# EAGLE library part XCV1000E_FG680 (library xilinx-xcv)
xcv1000e_fg680_1532 edit this description Auto generated by make-symbol-device-package-bsdl.ulp Rev. 26 Source: xcv1000e_fg680_1532.bsd
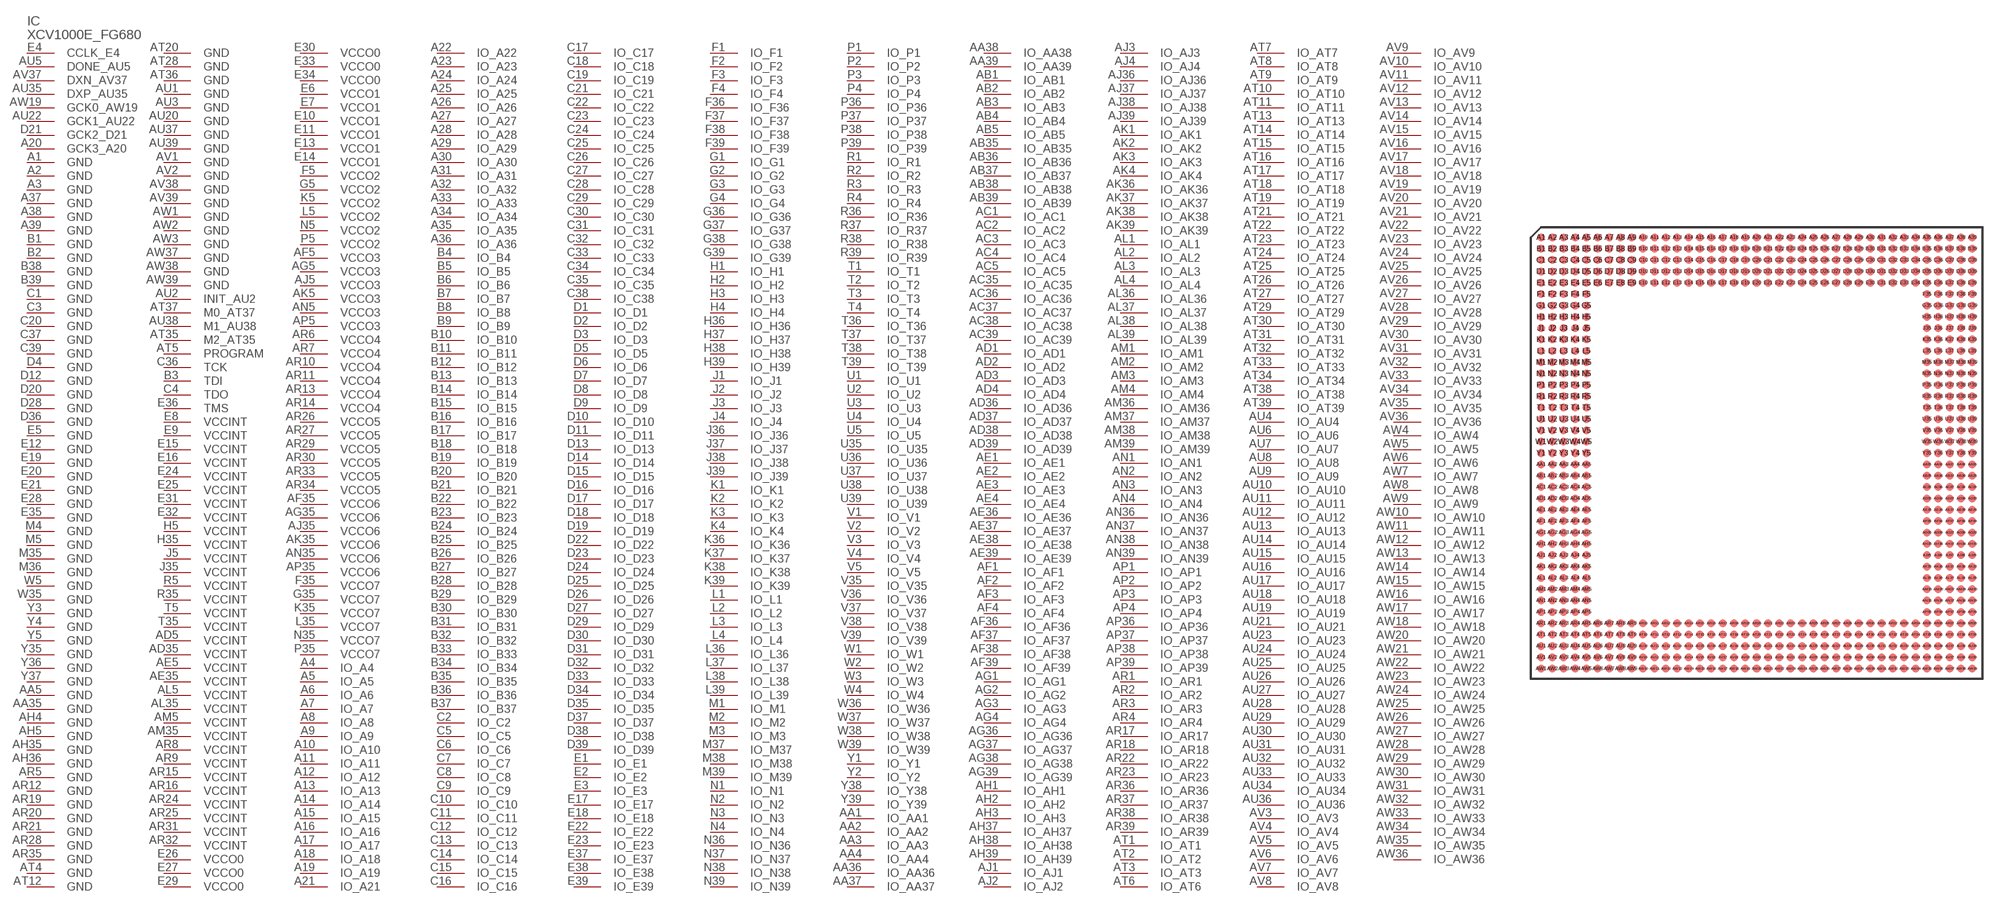
[diagram p11: symbol with the pads of FG680; footprint FG680]

Designator prefix IC

## XCV1000E_FG680  [FG680]
A1  GND  pwr
A2  GND  pwr
A3  GND  pwr
A4  IO_A4
A5  IO_A5
A6  IO_A6
A7  IO_A7
A8  IO_A8
A9  IO_A9
A10  IO_A10
A11  IO_A11
A12  IO_A12
A13  IO_A13
A14  IO_A14
A15  IO_A15
A16  IO_A16
A17  IO_A17
A18  IO_A18
A19  IO_A19
A20  GCK3_A20  in
A21  IO_A21
A22  IO_A22
A23  IO_A23
A24  IO_A24
A25  IO_A25
A26  IO_A26
A27  IO_A27
A28  IO_A28
A29  IO_A29
A30  IO_A30
A31  IO_A31
A32  IO_A32
A33  IO_A33
A34  IO_A34
A35  IO_A35
A36  IO_A36
A37  GND  pwr
A38  GND  pwr
A39  GND  pwr
AA1  IO_AA1
AA2  IO_AA2
AA3  IO_AA3
AA4  IO_AA4
AA5  GND  pwr
AA35  GND  pwr
AA36  IO_AA36
AA37  IO_AA37
AA38  IO_AA38
AA39  IO_AA39
AB1  IO_AB1
AB2  IO_AB2
AB3  IO_AB3
AB4  IO_AB4
AB5  IO_AB5
AB35  IO_AB35
AB36  IO_AB36
AB37  IO_AB37
AB38  IO_AB38
AB39  IO_AB39
AC1  IO_AC1
AC2  IO_AC2
AC3  IO_AC3
AC4  IO_AC4
AC5  IO_AC5
AC35  IO_AC35
AC36  IO_AC36
AC37  IO_AC37
AC38  IO_AC38
AC39  IO_AC39
AD1  IO_AD1
AD2  IO_AD2
AD3  IO_AD3
AD4  IO_AD4
AD5  VCCINT  pwr
AD35  VCCINT  pwr
AD36  IO_AD36
AD37  IO_AD37
AD38  IO_AD38
AD39  IO_AD39
AE1  IO_AE1
AE2  IO_AE2
AE3  IO_AE3
AE4  IO_AE4
AE5  VCCINT  pwr
AE35  VCCINT  pwr
AE36  IO_AE36
AE37  IO_AE37
AE38  IO_AE38
AE39  IO_AE39
AF1  IO_AF1
AF2  IO_AF2
AF3  IO_AF3
AF4  IO_AF4
AF5  VCCO3  pwr
AF35  VCCO6  pwr
AF36  IO_AF36
AF37  IO_AF37
AF38  IO_AF38
AF39  IO_AF39
AG1  IO_AG1
AG2  IO_AG2
AG3  IO_AG3
AG4  IO_AG4
AG5  VCCO3  pwr
AG35  VCCO6  pwr
AG36  IO_AG36
AG37  IO_AG37
AG38  IO_AG38
AG39  IO_AG39
AH1  IO_AH1
AH2  IO_AH2
AH3  IO_AH3
AH4  GND  pwr
AH5  GND  pwr
AH35  GND  pwr
AH36  GND  pwr
AH37  IO_AH37
AH38  IO_AH38
AH39  IO_AH39
AJ1  IO_AJ1
AJ2  IO_AJ2
AJ3  IO_AJ3
AJ4  IO_AJ4
AJ5  VCCO3  pwr
AJ35  VCCO6  pwr
AJ36  IO_AJ36
AJ37  IO_AJ37
AJ38  IO_AJ38
AJ39  IO_AJ39
AK1  IO_AK1
AK2  IO_AK2
AK3  IO_AK3
AK4  IO_AK4
AK5  VCCO3  pwr
AK35  VCCO6  pwr
AK36  IO_AK36
AK37  IO_AK37
AK38  IO_AK38
AK39  IO_AK39
AL1  IO_AL1
AL2  IO_AL2
AL3  IO_AL3
AL4  IO_AL4
AL5  VCCINT  pwr
AL35  VCCINT  pwr
AL36  IO_AL36
AL37  IO_AL37
AL38  IO_AL38
AL39  IO_AL39
AM1  IO_AM1
AM2  IO_AM2
AM3  IO_AM3
AM4  IO_AM4
AM5  VCCINT  pwr
AM35  VCCINT  pwr
AM36  IO_AM36
AM37  IO_AM37
AM38  IO_AM38
AM39  IO_AM39
AN1  IO_AN1
AN2  IO_AN2
AN3  IO_AN3
AN4  IO_AN4
AN5  VCCO3  pwr
AN35  VCCO6  pwr
AN36  IO_AN36
AN37  IO_AN37
AN38  IO_AN38
AN39  IO_AN39
AP1  IO_AP1
AP2  IO_AP2
AP3  IO_AP3
AP4  IO_AP4
AP5  VCCO3  pwr
AP35  VCCO6  pwr
AP36  IO_AP36
AP37  IO_AP37
AP38  IO_AP38
AP39  IO_AP39
AR1  IO_AR1
AR2  IO_AR2
AR3  IO_AR3
AR4  IO_AR4
AR5  GND  pwr
AR6  VCCO4  pwr
AR7  VCCO4  pwr
AR8  VCCINT  pwr
AR9  VCCINT  pwr
AR10  VCCO4  pwr
AR11  VCCO4  pwr
AR12  GND  pwr
AR13  VCCO4  pwr
AR14  VCCO4  pwr
AR15  VCCINT  pwr
AR16  VCCINT  pwr
AR17  IO_AR17
AR18  IO_AR18
AR19  GND  pwr
AR20  GND  pwr
AR21  GND  pwr
AR22  IO_AR22
AR23  IO_AR23
AR24  VCCINT  pwr
AR25  VCCINT  pwr
AR26  VCCO5  pwr
AR27  VCCO5  pwr
AR28  GND  pwr
AR29  VCCO5  pwr
AR30  VCCO5  pwr
AR31  VCCINT  pwr
AR32  VCCINT  pwr
AR33  VCCO5  pwr
AR34  VCCO5  pwr
AR35  GND  pwr
AR36  IO_AR36
AR37  IO_AR37
AR38  IO_AR38
AR39  IO_AR39
AT1  IO_AT1
AT2  IO_AT2
AT3  IO_AT3
AT4  GND  pwr
AT5  PROGRAM  in
AT6  IO_AT6
AT7  IO_AT7
AT8  IO_AT8
AT9  IO_AT9
AT10  IO_AT10
AT11  IO_AT11
AT12  GND  pwr
AT13  IO_AT13
AT14  IO_AT14
AT15  IO_AT15
AT16  IO_AT16
AT17  IO_AT17
AT18  IO_AT18
AT19  IO_AT19
AT20  GND  pwr
AT21  IO_AT21
AT22  IO_AT22
AT23  IO_AT23
AT24  IO_AT24
AT25  IO_AT25
AT26  IO_AT26
AT27  IO_AT27
AT28  GND  pwr
AT29  IO_AT29
AT30  IO_AT30
AT31  IO_AT31
AT32  IO_AT32
AT33  IO_AT33
AT34  IO_AT34
AT35  M2_AT35  in
AT36  GND  pwr
AT37  M0_AT37  in
AT38  IO_AT38
AT39  IO_AT39
AU1  GND  pwr
AU2  INIT_AU2
AU3  GND  pwr
AU4  IO_AU4
AU5  DONE_AU5
AU6  IO_AU6
AU7  IO_AU7
AU8  IO_AU8
AU9  IO_AU9
AU10  IO_AU10
AU11  IO_AU11
AU12  IO_AU12
AU13  IO_AU13
AU14  IO_AU14
AU15  IO_AU15
AU16  IO_AU16
AU17  IO_AU17
AU18  IO_AU18
AU19  IO_AU19
AU20  GND  pwr
AU21  IO_AU21
AU22  GCK1_AU22  in
AU23  IO_AU23
AU24  IO_AU24
AU25  IO_AU25
AU26  IO_AU26
AU27  IO_AU27
AU28  IO_AU28
AU29  IO_AU29
AU30  IO_AU30
AU31  IO_AU31
AU32  IO_AU32
AU33  IO_AU33
AU34  IO_AU34
AU35  DXP_AU35  pas
AU36  IO_AU36
AU37  GND  pwr
AU38  M1_AU38  in
AU39  GND  pwr
AV1  GND  pwr
AV2  GND  pwr
AV3  IO_AV3
AV4  IO_AV4
AV5  IO_AV5
AV6  IO_AV6
AV7  IO_AV7
AV8  IO_AV8
AV9  IO_AV9
AV10  IO_AV10
AV11  IO_AV11
AV12  IO_AV12
AV13  IO_AV13
AV14  IO_AV14
AV15  IO_AV15
AV16  IO_AV16
AV17  IO_AV17
AV18  IO_AV18
AV19  IO_AV19
AV20  IO_AV20
AV21  IO_AV21
AV22  IO_AV22
AV23  IO_AV23
AV24  IO_AV24
AV25  IO_AV25
AV26  IO_AV26
AV27  IO_AV27
AV28  IO_AV28
AV29  IO_AV29
AV30  IO_AV30
AV31  IO_AV31
AV32  IO_AV32
AV33  IO_AV33
AV34  IO_AV34
AV35  IO_AV35
AV36  IO_AV36
AV37  DXN_AV37  pas
AV38  GND  pwr
AV39  GND  pwr
AW1  GND  pwr
AW2  GND  pwr
AW3  GND  pwr
AW4  IO_AW4
AW5  IO_AW5
AW6  IO_AW6
AW7  IO_AW7
AW8  IO_AW8
AW9  IO_AW9
AW10  IO_AW10
AW11  IO_AW11
AW12  IO_AW12
AW13  IO_AW13
AW14  IO_AW14
AW15  IO_AW15
AW16  IO_AW16
AW17  IO_AW17
AW18  IO_AW18
AW19  GCK0_AW19  in
AW20  IO_AW20
AW21  IO_AW21
AW22  IO_AW22
AW23  IO_AW23
AW24  IO_AW24
AW25  IO_AW25
AW26  IO_AW26
AW27  IO_AW27
AW28  IO_AW28
AW29  IO_AW29
AW30  IO_AW30
AW31  IO_AW31
AW32  IO_AW32
AW33  IO_AW33
AW34  IO_AW34
AW35  IO_AW35
AW36  IO_AW36
AW37  GND  pwr
AW38  GND  pwr
AW39  GND  pwr
B1  GND  pwr
B2  GND  pwr
B3  TDI  in
B4  IO_B4
B5  IO_B5
B6  IO_B6
B7  IO_B7
B8  IO_B8
B9  IO_B9
B10  IO_B10
B11  IO_B11
B12  IO_B12
B13  IO_B13
B14  IO_B14
B15  IO_B15
B16  IO_B16
B17  IO_B17
B18  IO_B18
B19  IO_B19
B20  IO_B20
B21  IO_B21
B22  IO_B22
B23  IO_B23
B24  IO_B24
B25  IO_B25
B26  IO_B26
B27  IO_B27
B28  IO_B28
B29  IO_B29
B30  IO_B30
B31  IO_B31
B32  IO_B32
B33  IO_B33
B34  IO_B34
B35  IO_B35
B36  IO_B36
B37  IO_B37
B38  GND  pwr
B39  GND  pwr
C1  GND  pwr
C2  IO_C2
C3  GND  pwr
C4  TDO  out
C5  IO_C5
C6  IO_C6
C7  IO_C7
C8  IO_C8
C9  IO_C9
C10  IO_C10
C11  IO_C11
C12  IO_C12
C13  IO_C13
C14  IO_C14
C15  IO_C15
C16  IO_C16
C17  IO_C17
C18  IO_C18
C19  IO_C19
C20  GND  pwr
C21  IO_C21
C22  IO_C22
C23  IO_C23
C24  IO_C24
C25  IO_C25
C26  IO_C26
C27  IO_C27
C28  IO_C28
C29  IO_C29
C30  IO_C30
C31  IO_C31
C32  IO_C32
C33  IO_C33
C34  IO_C34
C35  IO_C35
C36  TCK  in
C37  GND  pwr
C38  IO_C38
C39  GND  pwr
D1  IO_D1
D2  IO_D2
D3  IO_D3
D4  GND  pwr
D5  IO_D5
D6  IO_D6
D7  IO_D7
D8  IO_D8
D9  IO_D9
D10  IO_D10
D11  IO_D11
D12  GND  pwr
D13  IO_D13
D14  IO_D14
D15  IO_D15
D16  IO_D16
D17  IO_D17
D18  IO_D18
D19  IO_D19
D20  GND  pwr
D21  GCK2_D21  in
D22  IO_D22
D23  IO_D23
D24  IO_D24
D25  IO_D25
D26  IO_D26
D27  IO_D27
D28  GND  pwr
D29  IO_D29
D30  IO_D30
D31  IO_D31
D32  IO_D32
D33  IO_D33
D34  IO_D34
D35  IO_D35
D36  GND  pwr
D37  IO_D37
D38  IO_D38
D39  IO_D39
E1  IO_E1
E2  IO_E2
E3  IO_E3
E4  CCLK_E4
E5  GND  pwr
E6  VCCO1  pwr
E7  VCCO1  pwr
E8  VCCINT  pwr
E9  VCCINT  pwr
E10  VCCO1  pwr
E11  VCCO1  pwr
E12  GND  pwr
E13  VCCO1  pwr
E14  VCCO1  pwr
E15  VCCINT  pwr
E16  VCCINT  pwr
E17  IO_E17
E18  IO_E18
E19  GND  pwr
E20  GND  pwr
E21  GND  pwr
E22  IO_E22
E23  IO_E23
E24  VCCINT  pwr
E25  VCCINT  pwr
E26  VCCO0  pwr
E27  VCCO0  pwr
E28  GND  pwr
E29  VCCO0  pwr
E30  VCCO0  pwr
E31  VCCINT  pwr
E32  VCCINT  pwr
E33  VCCO0  pwr
E34  VCCO0  pwr
E35  GND  pwr
E36  TMS  in
E37  IO_E37
E38  IO_E38
E39  IO_E39
F1  IO_F1
F2  IO_F2
F3  IO_F3
F4  IO_F4
F5  VCCO2  pwr
F35  VCCO7  pwr
F36  IO_F36
F37  IO_F37
F38  IO_F38
F39  IO_F39
G1  IO_G1
G2  IO_G2
G3  IO_G3
G4  IO_G4
G5  VCCO2  pwr
G35  VCCO7  pwr
G36  IO_G36
G37  IO_G37
G38  IO_G38
G39  IO_G39
H1  IO_H1
H2  IO_H2
H3  IO_H3
H4  IO_H4
H5  VCCINT  pwr
H35  VCCINT  pwr
H36  IO_H36
H37  IO_H37
H38  IO_H38
H39  IO_H39
J1  IO_J1
J2  IO_J2
J3  IO_J3
J4  IO_J4
J5  VCCINT  pwr
J35  VCCINT  pwr
J36  IO_J36
J37  IO_J37
J38  IO_J38
J39  IO_J39
K1  IO_K1
K2  IO_K2
K3  IO_K3
K4  IO_K4
K5  VCCO2  pwr
K35  VCCO7  pwr
K36  IO_K36
K37  IO_K37
K38  IO_K38
K39  IO_K39
L1  IO_L1
L2  IO_L2
L3  IO_L3
L4  IO_L4
L5  VCCO2  pwr
L35  VCCO7  pwr
L36  IO_L36
L37  IO_L37
L38  IO_L38
L39  IO_L39
M1  IO_M1
M2  IO_M2
M3  IO_M3
M4  GND  pwr
M5  GND  pwr
M35  GND  pwr
M36  GND  pwr
M37  IO_M37
M38  IO_M38
M39  IO_M39
N1  IO_N1
N2  IO_N2
N3  IO_N3
N4  IO_N4
N5  VCCO2  pwr
N35  VCCO7  pwr
N36  IO_N36
N37  IO_N37
N38  IO_N38
N39  IO_N39
P1  IO_P1
P2  IO_P2
P3  IO_P3
P4  IO_P4
P5  VCCO2  pwr
P35  VCCO7  pwr
P36  IO_P36
P37  IO_P37
P38  IO_P38
P39  IO_P39
R1  IO_R1
R2  IO_R2
R3  IO_R3
R4  IO_R4
R5  VCCINT  pwr
R35  VCCINT  pwr
R36  IO_R36
R37  IO_R37
R38  IO_R38
R39  IO_R39
T1  IO_T1
T2  IO_T2
T3  IO_T3
T4  IO_T4
T5  VCCINT  pwr
T35  VCCINT  pwr
T36  IO_T36
T37  IO_T37
T38  IO_T38
T39  IO_T39
U1  IO_U1
U2  IO_U2
U3  IO_U3
U4  IO_U4
U5  IO_U5
U35  IO_U35
U36  IO_U36
U37  IO_U37
U38  IO_U38
U39  IO_U39
V1  IO_V1
V2  IO_V2
V3  IO_V3
V4  IO_V4
V5  IO_V5
V35  IO_V35
V36  IO_V36
V37  IO_V37
V38  IO_V38
V39  IO_V39
W1  IO_W1
W2  IO_W2
W3  IO_W3
W4  IO_W4
W5  GND  pwr
W35  GND  pwr
W36  IO_W36
W37  IO_W37
W38  IO_W38
W39  IO_W39
Y1  IO_Y1
Y2  IO_Y2
Y3  GND  pwr
Y4  GND  pwr
Y5  GND  pwr
Y35  GND  pwr
Y36  GND  pwr
Y37  GND  pwr
Y38  IO_Y38
Y39  IO_Y39

## Footprint FG680 (pad centres in mm)
xcv1000_fg680_1532 edit this description Auto generated by make-symbol-device-package-bsdl.ulp Rev. 26 Source: xcv1000_fg680_1532.bsd
smd 0.7 x 0.7: A1 -19,19; A2 -18,19; A3 -17,19; A4 -16,19; A5 -15,19; A6 -14,19; A7 -13,19; A8 -12,19; A9 -11,19; A10 -10,19; A11 -9,19; A12 -8,19; A13 -7,19; A14 -6,19; A15 -5,19; A16 -4,19; A17 -3,19; A18 -2,19; A19 -1,19; A20 0,19; A21 1,19; A22 2,19; A23 3,19; A24 4,19; A25 5,19; A26 6,19; A27 7,19; A28 8,19; A29 9,19; A30 10,19; A31 11,19; A32 12,19; A33 13,19; A34 14,19; A35 15,19; A36 16,19; A37 17,19; A38 18,19; A39 19,19; AA1 -19,-1; AA2 -18,-1; AA3 -17,-1; AA4 -16,-1; AA5 -15,-1; AA35 15,-1; AA36 16,-1; AA37 17,-1; AA38 18,-1; AA39 19,-1; AB1 -19,-2; AB2 -18,-2; AB3 -17,-2; AB4 -16,-2; AB5 -15,-2; AB35 15,-2; AB36 16,-2; AB37 17,-2; AB38 18,-2; AB39 19,-2; AC1 -19,-3; AC2 -18,-3; AC3 -17,-3; AC4 -16,-3; AC5 -15,-3; AC35 15,-3; AC36 16,-3; AC37 17,-3; AC38 18,-3; AC39 19,-3; AD1 -19,-4; AD2 -18,-4; AD3 -17,-4; AD4 -16,-4; AD5 -15,-4; AD35 15,-4; AD36 16,-4; AD37 17,-4; AD38 18,-4; AD39 19,-4; AE1 -19,-5; AE2 -18,-5; AE3 -17,-5; AE4 -16,-5; AE5 -15,-5; AE35 15,-5; AE36 16,-5; AE37 17,-5; AE38 18,-5; AE39 19,-5; AF1 -19,-6; AF2 -18,-6; AF3 -17,-6; AF4 -16,-6; AF5 -15,-6; AF35 15,-6; AF36 16,-6; AF37 17,-6; AF38 18,-6; AF39 19,-6; AG1 -19,-7; AG2 -18,-7; AG3 -17,-7; AG4 -16,-7; AG5 -15,-7; AG35 15,-7; AG36 16,-7; AG37 17,-7; AG38 18,-7; AG39 19,-7; AH1 -19,-8; AH2 -18,-8; AH3 -17,-8; AH4 -16,-8; AH5 -15,-8; AH35 15,-8; AH36 16,-8; AH37 17,-8; AH38 18,-8; AH39 19,-8; AJ1 -19,-9; AJ2 -18,-9; AJ3 -17,-9; AJ4 -16,-9; AJ5 -15,-9; AJ35 15,-9; AJ36 16,-9; AJ37 17,-9; AJ38 18,-9; AJ39 19,-9; AK1 -19,-10; AK2 -18,-10; AK3 -17,-10; AK4 -16,-10; AK5 -15,-10; AK35 15,-10; AK36 16,-10; AK37 17,-10; AK38 18,-10; AK39 19,-10; AL1 -19,-11; AL2 -18,-11; AL3 -17,-11; AL4 -16,-11; AL5 -15,-11; AL35 15,-11; AL36 16,-11; AL37 17,-11; AL38 18,-11; AL39 19,-11; AM1 -19,-12; AM2 -18,-12; AM3 -17,-12; AM4 -16,-12; AM5 -15,-12; AM35 15,-12; AM36 16,-12; AM37 17,-12; AM38 18,-12; AM39 19,-12; AN1 -19,-13; AN2 -18,-13; AN3 -17,-13; AN4 -16,-13; AN5 -15,-13; AN35 15,-13; AN36 16,-13; AN37 17,-13; AN38 18,-13; AN39 19,-13; AP1 -19,-14; AP2 -18,-14; AP3 -17,-14; AP4 -16,-14; AP5 -15,-14; AP35 15,-14; AP36 16,-14; AP37 17,-14; AP38 18,-14; AP39 19,-14; AR1 -19,-15; AR2 -18,-15; AR3 -17,-15; AR4 -16,-15; AR5 -15,-15; AR6 -14,-15; AR7 -13,-15; AR8 -12,-15; AR9 -11,-15; AR10 -10,-15; AR11 -9,-15; AR12 -8,-15; AR13 -7,-15; AR14 -6,-15; AR15 -5,-15; AR16 -4,-15; AR17 -3,-15; AR18 -2,-15; AR19 -1,-15; AR20 0,-15; AR21 1,-15; AR22 2,-15; AR23 3,-15; AR24 4,-15; AR25 5,-15; AR26 6,-15; AR27 7,-15; AR28 8,-15; AR29 9,-15; AR30 10,-15; AR31 11,-15; AR32 12,-15; AR33 13,-15; AR34 14,-15; AR35 15,-15; AR36 16,-15; AR37 17,-15; AR38 18,-15; AR39 19,-15; AT1 -19,-16; AT2 -18,-16; AT3 -17,-16; AT4 -16,-16; AT5 -15,-16; AT6 -14,-16; AT7 -13,-16; AT8 -12,-16; AT9 -11,-16; AT10 -10,-16; AT11 -9,-16; AT12 -8,-16; AT13 -7,-16; AT14 -6,-16; AT15 -5,-16; AT16 -4,-16; AT17 -3,-16; AT18 -2,-16; AT19 -1,-16; AT20 0,-16; AT21 1,-16; AT22 2,-16; AT23 3,-16; AT24 4,-16; AT25 5,-16; AT26 6,-16; AT27 7,-16; AT28 8,-16; AT29 9,-16; AT30 10,-16; AT31 11,-16; AT32 12,-16; AT33 13,-16; AT34 14,-16; AT35 15,-16; AT36 16,-16; AT37 17,-16; AT38 18,-16; AT39 19,-16; AU1 -19,-17; AU2 -18,-17; AU3 -17,-17; AU4 -16,-17; AU5 -15,-17; AU6 -14,-17; AU7 -13,-17; AU8 -12,-17; AU9 -11,-17; AU10 -10,-17; AU11 -9,-17; AU12 -8,-17; AU13 -7,-17; AU14 -6,-17; AU15 -5,-17; AU16 -4,-17; AU17 -3,-17; AU18 -2,-17; AU19 -1,-17; AU20 0,-17; AU21 1,-17; AU22 2,-17; AU23 3,-17; AU24 4,-17; AU25 5,-17; AU26 6,-17; AU27 7,-17; AU28 8,-17; AU29 9,-17; AU30 10,-17; AU31 11,-17; AU32 12,-17; AU33 13,-17; AU34 14,-17; AU35 15,-17; AU36 16,-17; AU37 17,-17; AU38 18,-17; AU39 19,-17; AV1 -19,-18; AV2 -18,-18; AV3 -17,-18; AV4 -16,-18; AV5 -15,-18; AV6 -14,-18; AV7 -13,-18; AV8 -12,-18; AV9 -11,-18; AV10 -10,-18; AV11 -9,-18; AV12 -8,-18; AV13 -7,-18; AV14 -6,-18; AV15 -5,-18; AV16 -4,-18; AV17 -3,-18; AV18 -2,-18; AV19 -1,-18; AV20 0,-18; AV21 1,-18; AV22 2,-18; AV23 3,-18; AV24 4,-18; AV25 5,-18; AV26 6,-18; AV27 7,-18; AV28 8,-18; AV29 9,-18; AV30 10,-18; AV31 11,-18; AV32 12,-18; AV33 13,-18; AV34 14,-18; AV35 15,-18; AV36 16,-18; AV37 17,-18; AV38 18,-18; AV39 19,-18; AW1 -19,-19; AW2 -18,-19; AW3 -17,-19; AW4 -16,-19; AW5 -15,-19; AW6 -14,-19; AW7 -13,-19; AW8 -12,-19; AW9 -11,-19; AW10 -10,-19; AW11 -9,-19; AW12 -8,-19; AW13 -7,-19; AW14 -6,-19; AW15 -5,-19; AW16 -4,-19; AW17 -3,-19; AW18 -2,-19; AW19 -1,-19; AW20 0,-19; AW21 1,-19; AW22 2,-19; AW23 3,-19; AW24 4,-19; AW25 5,-19; AW26 6,-19; AW27 7,-19; AW28 8,-19; AW29 9,-19; AW30 10,-19; AW31 11,-19; AW32 12,-19; AW33 13,-19; AW34 14,-19; AW35 15,-19; AW36 16,-19; AW37 17,-19; AW38 18,-19; AW39 19,-19; B1 -19,18; B2 -18,18; B3 -17,18; B4 -16,18; B5 -15,18; B6 -14,18; B7 -13,18; B8 -12,18; B9 -11,18; B10 -10,18; B11 -9,18; B12 -8,18; B13 -7,18; B14 -6,18; B15 -5,18; B16 -4,18; B17 -3,18; B18 -2,18; B19 -1,18; B20 0,18; B21 1,18; B22 2,18; B23 3,18; B24 4,18; B25 5,18; B26 6,18; B27 7,18; B28 8,18; B29 9,18; B30 10,18; B31 11,18; B32 12,18; B33 13,18; B34 14,18; B35 15,18; B36 16,18; B37 17,18; B38 18,18; B39 19,18; C1 -19,17; C2 -18,17; C3 -17,17; C4 -16,17; C5 -15,17; C6 -14,17; C7 -13,17; C8 -12,17; C9 -11,17; C10 -10,17; C11 -9,17; C12 -8,17; C13 -7,17; C14 -6,17; C15 -5,17; C16 -4,17; C17 -3,17; C18 -2,17; C19 -1,17; C20 0,17; C21 1,17; C22 2,17; C23 3,17; C24 4,17; C25 5,17; C26 6,17; C27 7,17; C28 8,17; C29 9,17; C30 10,17; C31 11,17; C32 12,17; C33 13,17; C34 14,17; C35 15,17; C36 16,17; C37 17,17; C38 18,17; C39 19,17; D1 -19,16; D2 -18,16; D3 -17,16; D4 -16,16; D5 -15,16; D6 -14,16; D7 -13,16; D8 -12,16; D9 -11,16; D10 -10,16; D11 -9,16; D12 -8,16; D13 -7,16; D14 -6,16; D15 -5,16; D16 -4,16; D17 -3,16; D18 -2,16; D19 -1,16; D20 0,16; D21 1,16; D22 2,16; D23 3,16; D24 4,16; D25 5,16; D26 6,16; D27 7,16; D28 8,16; D29 9,16; D30 10,16; D31 11,16; D32 12,16; D33 13,16; D34 14,16; D35 15,16; D36 16,16; D37 17,16; D38 18,16; D39 19,16; E1 -19,15; E2 -18,15; E3 -17,15; E4 -16,15; E5 -15,15; E6 -14,15; E7 -13,15; E8 -12,15; E9 -11,15; E10 -10,15; E11 -9,15; E12 -8,15; E13 -7,15; E14 -6,15; E15 -5,15; E16 -4,15; E17 -3,15; E18 -2,15; E19 -1,15; E20 0,15; E21 1,15; E22 2,15; E23 3,15; E24 4,15; E25 5,15; E26 6,15; E27 7,15; E28 8,15; E29 9,15; E30 10,15; E31 11,15; E32 12,15; E33 13,15; E34 14,15; E35 15,15; E36 16,15; E37 17,15; E38 18,15; E39 19,15; F1 -19,14; F2 -18,14; F3 -17,14; F4 -16,14; F5 -15,14; F35 15,14; F36 16,14; F37 17,14; F38 18,14; F39 19,14; G1 -19,13; G2 -18,13; G3 -17,13; G4 -16,13; G5 -15,13; G35 15,13; G36 16,13; G37 17,13; G38 18,13; G39 19,13; H1 -19,12; H2 -18,12; H3 -17,12; H4 -16,12; H5 -15,12; H35 15,12; H36 16,12; H37 17,12; H38 18,12; H39 19,12; J1 -19,11; J2 -18,11; J3 -17,11; J4 -16,11; J5 -15,11; J35 15,11; J36 16,11; J37 17,11; J38 18,11; J39 19,11; K1 -19,10; K2 -18,10; K3 -17,10; K4 -16,10; K5 -15,10; K35 15,10; K36 16,10; K37 17,10; K38 18,10; K39 19,10; L1 -19,9; L2 -18,9; L3 -17,9; L4 -16,9; L5 -15,9; L35 15,9; L36 16,9; L37 17,9; L38 18,9; L39 19,9; M1 -19,8; M2 -18,8; M3 -17,8; M4 -16,8; M5 -15,8; M35 15,8; M36 16,8; M37 17,8; M38 18,8; M39 19,8; N1 -19,7; N2 -18,7; N3 -17,7; N4 -16,7; N5 -15,7; N35 15,7; N36 16,7; N37 17,7; N38 18,7; N39 19,7; P1 -19,6; P2 -18,6; P3 -17,6; P4 -16,6; P5 -15,6; P35 15,6; P36 16,6; P37 17,6; P38 18,6; P39 19,6; R1 -19,5; R2 -18,5; R3 -17,5; R4 -16,5; R5 -15,5; R35 15,5; R36 16,5; R37 17,5; R38 18,5; R39 19,5; T1 -19,4; T2 -18,4; T3 -17,4; T4 -16,4; T5 -15,4; T35 15,4; T36 16,4; T37 17,4; T38 18,4; T39 19,4; U1 -19,3; U2 -18,3; U3 -17,3; U4 -16,3; U5 -15,3; U35 15,3; U36 16,3; U37 17,3; U38 18,3; U39 19,3; V1 -19,2; V2 -18,2; V3 -17,2; V4 -16,2; V5 -15,2; V35 15,2; V36 16,2; V37 17,2; V38 18,2; V39 19,2; W1 -19,1; W2 -18,1; W3 -17,1; W4 -16,1; W5 -15,1; W35 15,1; W36 16,1; W37 17,1; W38 18,1; W39 19,1; Y1 -19,0; Y2 -18,0; Y3 -17,0; Y4 -16,0; Y5 -15,0; Y35 15,0; Y36 16,0; Y37 17,0; Y38 18,0; Y39 19,0